# Altium footprint library HGH.PcbLib: 336 footprints (part 15 of 21)
Each footprint in its own frame and in the unit in brackets; x right, y up, seen from the top. Pads: shape width x height; smd on the part's side, far side on the other; paste and mask are expansions set on the pad; w line width, h text height; cw(c..) or ccw(c..) is an arc to the next point about the centre after c.
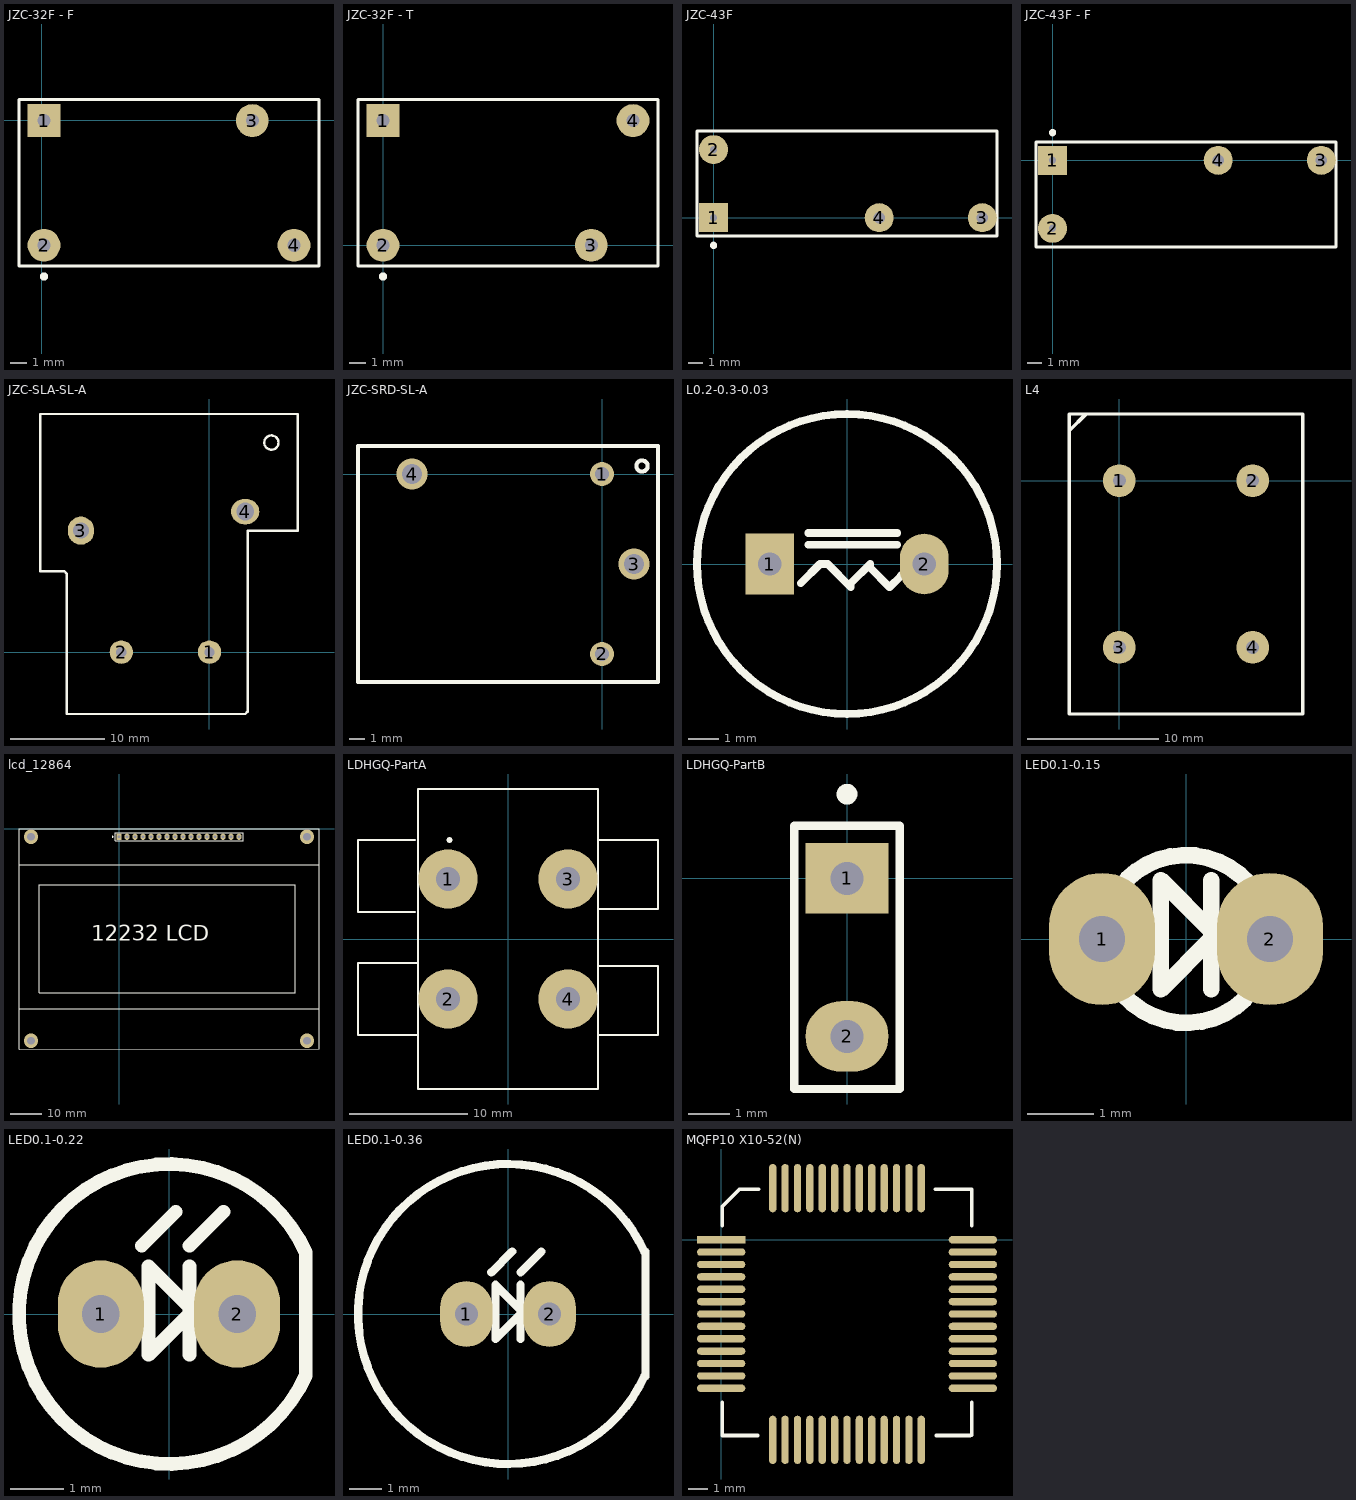
[diagram p14: the footprints below, top view; thin cyan lines are the x and y axes]

## JZC-32F - F [mm]
pads (4):
  rect 2x2 hole 0.8: 1(0.127,-0.02)
  round 2 hole 0.8: 2(0.127,-7.62) 3(12.827,-0.02) 4(15.367,-7.62)
Top Overlay:
  circle w0.25: c0.129,-9.525 r0.125
  lines w0.2: -1.397,-8.89 -1.397,1.27 16.891,1.27 16.891,-8.89 -1.397,-8.89

## JZC-32F - T [mm]
pads (4):
  rect 2x2 hole 0.8: 1(0,7.6)
  round 2 hole 0.8: 2(0,0) 3(12.7,0) 4(15.24,7.6)
Top Overlay:
  circle w0.25: c0.002,-1.905 r0.125
  lines w0.2: -1.524,-1.27 -1.524,8.89 16.764,8.89 16.764,-1.27 -1.524,-1.27

## JZC-43F [mm]
pads (4):
  rect 2x2 hole 0.5: 1(0,0)
  round 2 hole 0.5: 2(0,4.699)
  round 2 hole 0.8: 3(18.542,0) 4(11.43,0)
Top Overlay:
  circle w0.25: c0.002,-1.905 r0.125
  lines w0.2: -1.143,-1.27 -1.143,5.994 19.558,5.994 19.558,-1.27 -1.143,-1.27

## JZC-43F - F [mm]
pads (4):
  rect 2x2 hole 0.5: 1(0,0)
  round 2 hole 0.5: 2(0,-4.699)
  round 2 hole 0.8: 3(18.542,0) 4(11.43,0)
Top Overlay:
  circle w0.25: c0.002,1.905 r0.125
  lines w0.2: -1.143,-5.994 19.558,-5.994 19.558,1.27 -1.143,1.27 -1.143,-5.994

## JZC-SLA-SL-A [mm]
pads (4):
  round 2.5 hole 1.1: 1(0,0) 2(-9.398,0)
  oval 2.8x3 hole 1.7: 3(-13.716,12.954)
  oval 3x2.7 hole 1.9: 4(3.81,14.986)
Top Overlay:
  circle w0.254: c6.604,22.352 r0.762
  lines w0.254: -15.24,-4.064 -15.24,8.382 -15.494,8.636 -18.034,8.636 -18.034,25.4 9.398,25.4 9.398,12.954 4.064,12.954 4.064,-6.35 3.81,-6.604 -15.24,-6.604 -15.24,-2.794

## JZC-SRD-SL-A [mm]
pads (4):
  round 1.524 hole 0.9: 1(0,0) 2(0,-11.43)
  round 2 hole 1.3: 3(2.032,-5.715) 4(-12.065,0)
Top Overlay:
  circle w0.254: c2.54,0.508 r0.359
  lines w0.254: 3.556,-12.954 3.556,1.778 -2.286,1.778 -15.494,1.778 -15.494,-8.128 -15.494,-13.208 3.302,-13.208 3.556,-13.208 3.556,-12.7

## L0.2-0.3-0.03 [mm]
pads (2):
  rect 1.6x2 hole 0.762: 1(-2.54,0)
  oval 1.6x2 hole 0.762: 2(2.54,0)
Top Overlay:
  circle w0.254: c0,0 r4.932
  lines w0.254: -1.524,-0.635 -0.889,0 -0.635,0 0.127,-0.762 0.127,-0.635 0.762,0 0.762,-0.127 1.397,-0.762 1.778,-0.381 ; -1.27,0.635 1.651,0.635 ; -1.27,1.016 1.651,1.016

## L4 [mm]
pads (4):
  round 2.5 hole 1: 1(0,0) 2(10.16,0) 3(0,-12.7) 4(10.16,-12.7)
Top Overlay:
  lines w0.254: -3.81,3.81 -2.54,5.08 ; -3.81,-17.78 13.97,-17.78 13.97,5.08 -3.81,5.08 -3.81,-17.78

## lcd_12864 [mm] "lcd"
pads (16):
  rect 1.7x2 hole 0.8: 1(0,-2.54)
  oval 1.7x2 hole 0.8: 2(2.54,-2.54) 3(5.08,-2.54) 4(7.62,-2.54) 5(10.16,-2.54) 6(12.7,-2.54) 7(15.24,-2.54) 8(17.78,-2.54) 9(20.32,-2.54) 10(22.86,-2.54) 11(25.4,-2.54) 12(27.94,-2.54) 13(30.48,-2.54) 14(33.02,-2.54) 15(35.56,-2.54) 16(38.1,-2.54)
via -27.94,-2.54 diameter 4.5 hole 2.4
via 59.69,-2.54 diameter 4.5 hole 2.4
via 59.69,-67.31 diameter 4.5 hole 2.4
via -27.94,-67.31 diameter 4.5 hole 2.4
Top Overlay:
  circle w0.25: c-2.03,-2.54 r0.125
  lines w0.2: -1.27,-3.81 39.37,-3.81 39.37,-1.27 0.635,-1.27 -1.27,-1.27 -1.27,-3.81
  lines w0.254: -31.75,-57.15 63.5,-57.15 ; -31.75,-11.43 63.5,-11.43 ; -31.75,-70 -31.75,0 0,0 63.5,0 63.5,-69.85 -31.75,-70 ; -25.4,-52.07 -25.4,-17.78 55.88,-17.78 55.88,-52.07 -25.4,-52.07
  text "12232 LCD" at -8.89,-35.56 h5

## LDHGQ-PartA [mm]
pads (4):
  round 5 hole 2: 1(-5.08,5.08) 2(-5.08,-5.08) 3(5.08,5.08) 4(5.08,-5.08)
Top Overlay:
  circle w0.25: c-4.951,8.382 r0.125
  lines w0.2: -7.874,2.286 -12.7,2.286 -12.7,8.382 -7.874,8.382 ; -7.62,-8.128 -12.7,-8.128 -12.7,-2.032 -7.62,-2.032 ; 7.62,-8.128 12.7,-8.128 12.7,-2.286 7.62,-2.286 ; 7.62,2.54 12.7,2.54 12.7,8.382 7.62,8.382 ; -7.62,-12.7 7.62,-12.7 7.62,12.7 -7.62,12.7 -7.62,-12.7

## LDHGQ-PartB [mm]
pads (2):
  rect 2x1.7 hole 0.8: 1(0,0)
  oval 2x1.7 hole 0.8: 2(0,-3.81)
Top Overlay:
  circle w0.25: c0,2.03 r0.125
  lines w0.2: -1.27,-5.08 1.27,-5.08 1.27,-0.635 1.27,1.27 -1.27,1.27 -1.27,-5.08

## LED0.1-0.15 [mm]
pads (2):
  oval 1.6x2 hole 0.7: 1(-1.27,0) 2(1.27,0)
Top Overlay:
  lines w0.254: -0.956,-0.836 ccw(c0,0) 0.898,-0.898 ; -0.898,0.898 cw(c0,0) 0.956,0.836 ; 0.381,-0.762 0.381,0.889 ; -0.381,-0.762 0.381,0 0.381,0.127 -0.381,0.889 -0.381,-0.762

## LED0.1-0.22 [mm]
pads (2):
  oval 1.6x2 hole 0.7: 1(-1.27,0) 2(1.27,0)
Top Overlay:
  lines w0.254: -0.508,1.27 0.127,1.905 ; 0.381,-0.762 0.381,0.889 ; 0.381,1.27 1.016,1.905 ; -0.381,-0.762 -0.381,0.889 0.381,0.127 0.381,0 -0.381,-0.762 ; 2.548,-1.147 cw(c0,0) 2.548,1.147 2.548,-1.147

## LED0.1-0.36 [mm]
pads (2):
  oval 1.6x2 hole 0.7: 1(-1.27,0) 2(1.27,0)
Top Overlay:
  lines w0.254: -0.508,1.27 0.127,1.905 ; 0.381,-0.762 0.381,0.889 ; 0.381,1.27 1.016,1.905 ; 4.169,-1.876 cw(c0,0) 4.169,1.876 ; 4.191,-1.905 4.191,1.905 ; -0.381,-0.762 0.381,0 0.381,0.127 -0.381,0.889 -0.381,-0.762

## MQFP10 X10-52(N) [mil]
pads (52):
  rect 100x15 smd: 1(0,0)
  oval 100x15 smd: 2(0,-25.59) 3(0,-51.18) 4(0,-76.77) 5(0,-102.36) 6(0,-127.95) 7(0,-153.54) 8(0,-179.13) 9(0,-204.72) 10(0,-230.31) 11(0,-255.91) 12(0,-281.5) 13(0,-307.09) 27(520.32,-307.09) 28(520.32,-281.5) 29(520.32,-255.91) 30(520.32,-230.31) 31(520.32,-204.72) 32(520.32,-179.13) 33(520.32,-153.54) 34(520.32,-127.95) 35(520.32,-102.36) 36(520.32,-76.77) 37(520.32,-51.18) 38(520.32,-25.59) 39(520.32,0)
  oval 15x100 smd: 14(106.61,-413.7) 15(132.21,-413.7) 16(157.79,-413.7) 17(183.39,-413.7) 18(208.98,-413.7) 19(234.57,-413.7) 20(260.16,-413.7) 21(285.75,-413.7) 22(311.34,-413.7) 23(336.93,-413.7) 24(362.52,-413.7) 25(388.11,-413.7) 26(413.7,-413.7) 40(413.7,106.61) 41(388.11,106.61) 42(362.52,106.61) 43(336.93,106.61) 44(311.34,106.61) 45(285.75,106.61) 46(260.16,106.61) 47(234.57,106.61) 48(208.98,106.61) 49(183.39,106.61) 50(157.79,106.61) 51(132.21,106.61) 52(106.61,106.61)
Top Overlay:
  lines w7.87: 2.28,-405 74.8,-405 ; 2.28,-404.42 2.28,-336.62 ; 2.28,29.53 2.28,68.9 37.72,104.33 77.09,104.33 ; 443.23,104.33 518.03,104.33 518.03,29.53 ; 445.2,-405 515,-405 ; 518.03,-404.42 518.03,-336.62

## PCBComponent_1 [mm]